# Altium footprint library PcbLib1.PcbLib: 8 footprints
Each footprint in its own frame and in the unit in brackets; x right, y up, seen from the top. Pads: shape width x height; smd on the part's side, far side on the other; paste and mask are expansions set on the pad; w line width, h text height; cw(c..) or ccw(c..) is an arc to the next point about the centre after c.
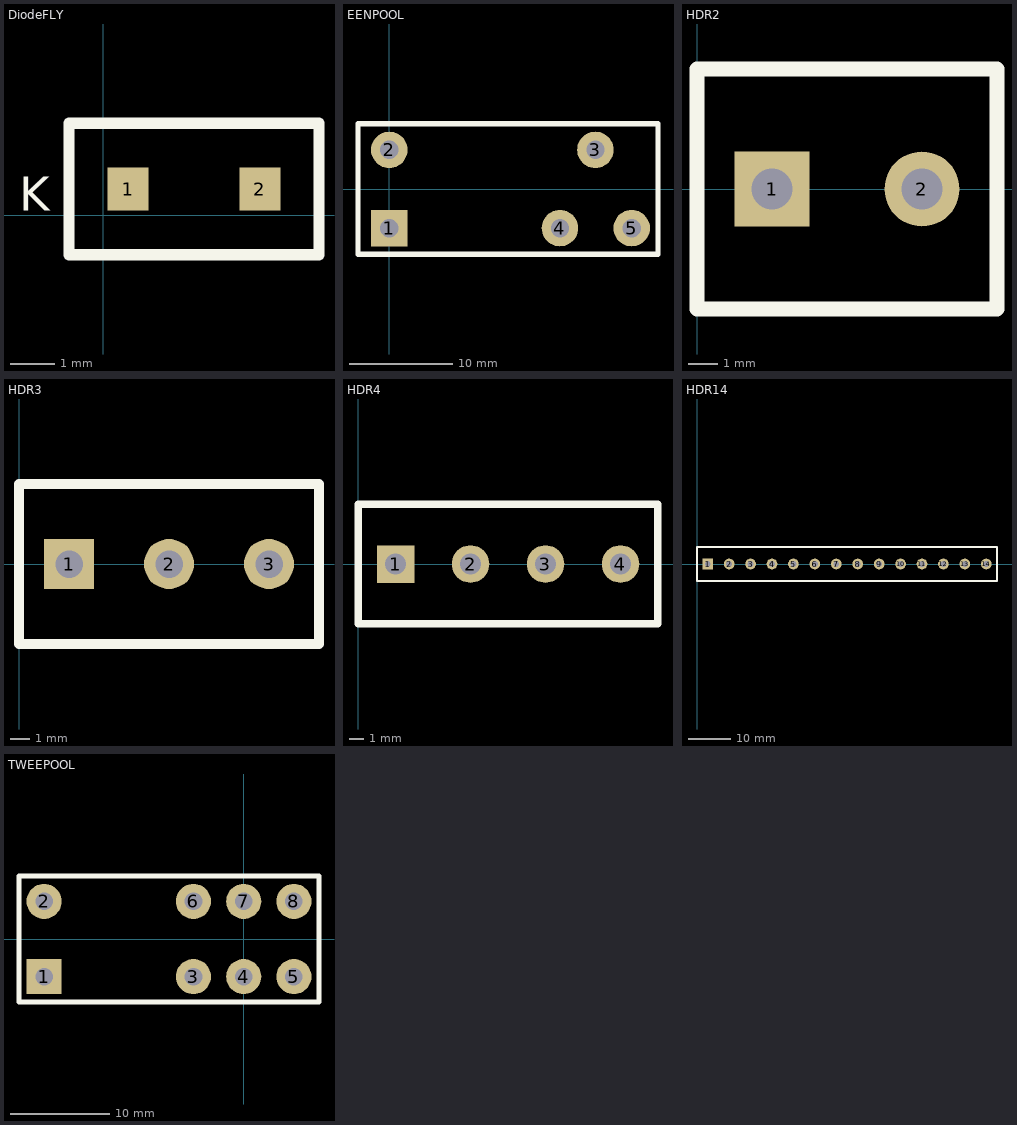
[diagram p0: the footprints below, top view; thin cyan lines are the x and y axes]

## DiodeFLY [mil]
pads (2):
  rect 36x38 smd: 1(22,23) 2(138,23)
Top Overlay:
  lines w10: 2,81 108,81 190,81 190,59 190,0 190,-35 -1,-35 -30,-35 -30,0 -30,59 -30,81 9,81
  text "K" at -74,4 h30

## EENPOOL [mil]
pads (5):
  rect 140x140 hole 70: 1(0,-150)
  round 140 hole 70: 2(0,150) 3(790,150) 4(654,-150) 5(929,-150)
Top Overlay:
  lines w20: -120,-250 1030,-250 1030,250 -120,250 -120,-250

## HDR2 [mil]
pads (2):
  rect 100x100 hole 55: 1(100,0)
  round 100 hole 55: 2(300,0)
Top Overlay:
  lines w20: 0,-160 400,-160 400,160 0,160 0,-160

## HDR3 [mil]
pads (3):
  rect 100x100 hole 55: 1(100,0)
  round 100 hole 55: 2(300,0) 3(500,0)
Top Overlay:
  lines w20: 0,-160 0,160 600,160 600,-160 0,-160

## HDR4 [mil]
pads (4):
  rect 100x100 hole 55: 1(100,0)
  round 100 hole 55: 2(300,0) 3(500,0) 4(700,0)
Top Overlay:
  lines w20: 0,-160 800,-160 800,160 0,160 0,-160

## HDR14 [mil]
pads (14):
  rect 100x100 hole 55: 1(100,0)
  round 100 hole 55: 2(300,0) 3(500,0) 4(700,0) 5(900,0) 6(1100,0) 7(1300,0) 8(1500,0) 9(1700,0) 10(1900,0) 11(2100,0) 12(2300,0) 13(2500,0) 14(2700,0)
Top Overlay:
  lines w20: 0,-160 2800,-160 2800,160 0,160 0,-160

## PCBComponent_1 [mil]

## TWEEPOOL [mil]
pads (8):
  rect 140x140 hole 70: 1(-795,-150)
  round 140 hole 70: 2(-795,150) 3(-200,-150) 4(0,-150) 5(200,-150) 6(-200,150) 7(0,150) 8(200,150)
Top Overlay:
  lines w20: -895,-250 -895,250 300,250 300,-250 -895,-250